# EAGLE library part 628512S (library dec-con)
512Kx8 Static RAM
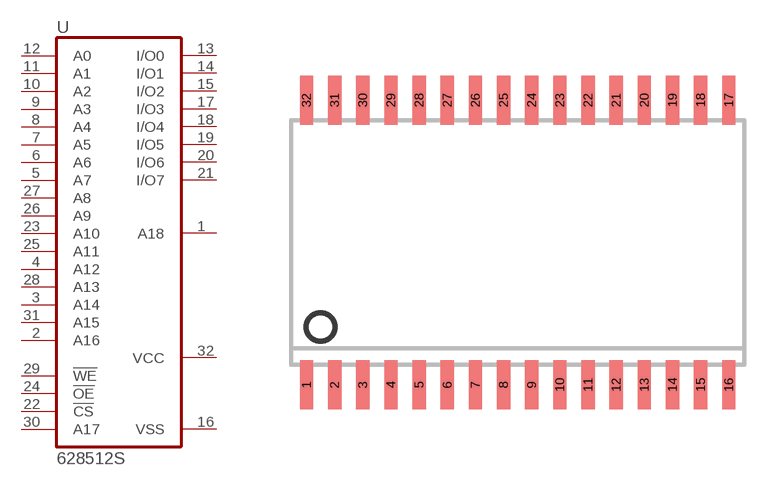
[diagram p91: symbol with the pads of S032L; footprint S032L]

Designator prefix -

## 628512S  [S032L]
1  A18  in
2  A16  in
3  A14  in
4  A12  in
5  A7  in
6  A6  in
7  A5  in
8  A4  in
9  A3  in
10  A2  in
11  A1  in
12  A0  in
13  I/O0
14  I/O1
15  I/O2
16  VSS  pwr
17  I/O3
18  I/O4
19  I/O5
20  I/O6
21  I/O7
22  !CS  in
23  A10  in
24  !OE  in
25  A11  in
26  A9  in
27  A8  in
28  A13  in
29  !WE  in
30  A17  in
31  A15  in
32  VCC  pwr

## Footprint S032L (pad centres in mm)
smd 0.6 x 2.2: 1 -7.795,-6.146; 2 -6.525,-6.146; 3 -5.255,-6.146; 4 -3.985,-6.146; 5 -2.715,-6.146; 6 -1.445,-6.146; 7 -0.175,-6.146; 8 1.095,-6.146; 9 2.365,-6.146; 10 3.635,-6.146; 11 4.905,-6.146; 12 6.175,-6.146; 13 7.445,-6.146; 14 8.715,-6.146; 15 9.985,-6.146; 16 11.255,-6.146; 17 11.255,6.686; 18 9.985,6.686; 19 8.715,6.686; 20 7.445,6.686; 21 6.175,6.686; 22 4.905,6.686; 23 3.635,6.686; 24 2.365,6.686; 25 1.095,6.686; 26 -0.175,6.686; 27 -1.445,6.686; 28 -2.715,6.686; 29 -3.985,6.686; 30 -5.255,6.686; 31 -6.525,6.686; 32 -7.795,6.686